# EAGLE library part 233-107/000-017 (library con-wago_233)
Serie 233, Stand: 01.01.2012. Die jeweils aktuellen Daten zu diesem Artikel finden Sie in unserem Produktkatalog, den Sie unter www.wago.com einsehen können. As of: 01/01/2012. Please find the newest data for this article in our product catalogue, which can be viewed under www.wago.com.
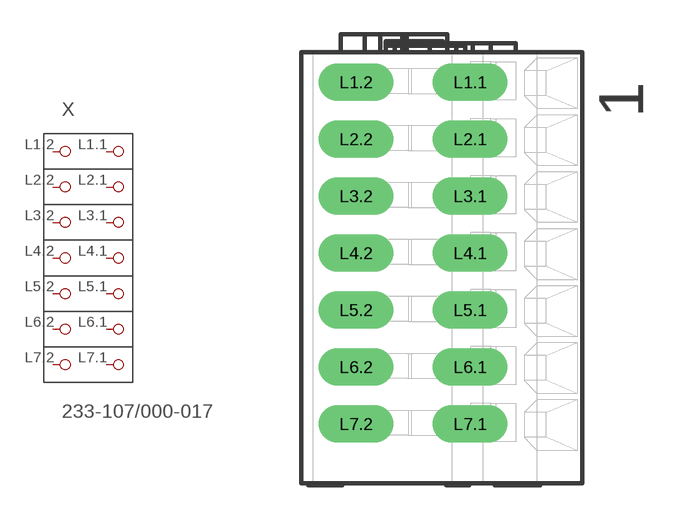
[diagram p48: symbol with the pads of P-233-107; footprint P-233-107]

Designator prefix X

## 233-107/000-017  [P-233-107]
L1.1  P1.1
L1.2  P1.2
L2.1  P2.1
L2.2  P2.2
L3.1  P3.1
L3.2  P3.2
L4.1  P4.1
L4.2  P4.2
L5.1  P5.1
L5.2  P5.2
L6.1  P6.1
L6.2  P6.2
L7.1  P7.1
L7.2  P7.2

## Footprint P-233-107 (pad centres in mm)
drill 1.1 long: L1.1 1.238,7.8; L1.2 -3.762,7.8; L2.1 1.238,5.3; L2.2 -3.762,5.3; L3.1 1.238,2.8; L3.2 -3.762,2.8; L4.1 1.238,0.3; L4.2 -3.762,0.3; L5.1 1.238,-2.2; L5.2 -3.762,-2.2; L6.1 1.238,-4.7; L6.2 -3.762,-4.7; L7.1 1.238,-7.2; L7.2 -3.762,-7.2